# EAGLE library part 90130-*06 (library con-molex)
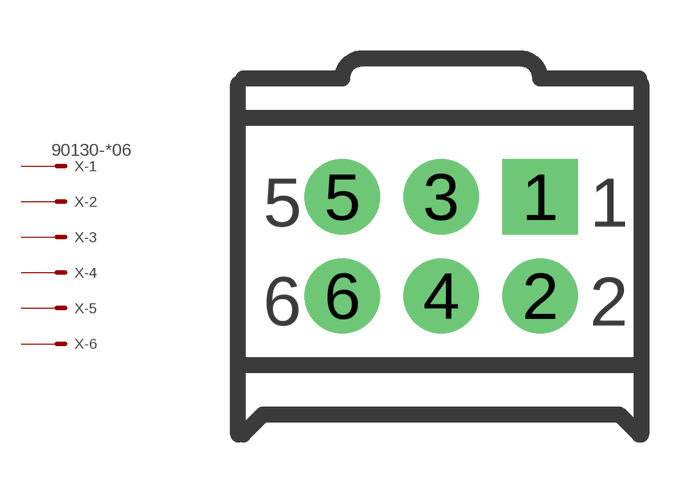
[diagram p0: symbol with the pads of 90130; footprint 90130]

Designator prefix X; gates -1=MV2 -2=M2 -3=M2 -4=M2 -5=M2 -6=M2

## 90130-06  [90130]
1  -1:S  pas
2  -2:S  pas
3  -3:S  pas
4  -4:S  pas
5  -5:S  pas
6  -6:S  pas

## Footprint 90130 (pad centres in mm)
drill 1 pad 1.93 square: 1 5.08,0
drill 1 pad 1.93: 2 5.08,-2.54; 3 2.54,0; 4 2.54,-2.54; 5 0,0; 6 0,-2.54